# EAGLE library part SBH11-NBPC-D12-SM-BK (library SBH11-NBPC-D12-SM-BK)
Conn Headr 2.54mm 24pos Gold Smd
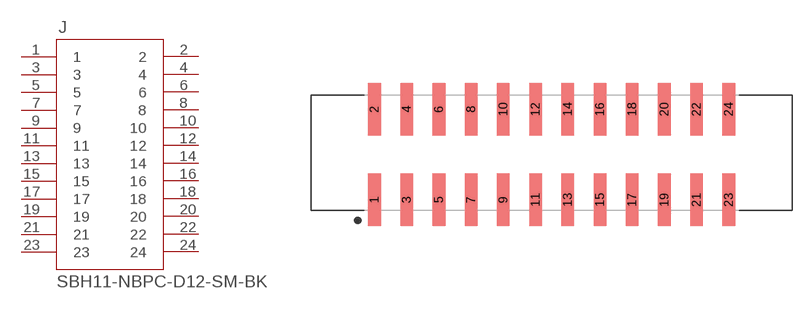
[diagram p0: symbol with the pads of SULLINS_SBH11-NBPC-D12-SM-BK; footprint SULLINS_SBH11-NBPC-D12-SM-BK]

Designator prefix J

## SBH11-NBPC-D12-SM-BK (Availability: Warning; Description: Conn Headr 2.54mm 24pos Gold Smd; MF: Sullins Connector; MP: SBH11-NBPC-D12-SM-BK; Package: None; Price: 1.05 USD)  [SULLINS_SBH11-NBPC-D12-SM-BK]
1  1  pas
2  2  pas
3  3  pas
4  4  pas
5  5  pas
6  6  pas
7  7  pas
8  8  pas
9  9  pas
10  10  pas
11  11  pas
12  12  pas
13  13  pas
14  14  pas
15  15  pas
16  16  pas
17  17  pas
18  18  pas
19  19  pas
20  20  pas
21  21  pas
22  22  pas
23  23  pas
24  24  pas

## Footprint SULLINS_SBH11-NBPC-D12-SM-BK (pad centres in mm)
smd 1 x 4.15: 1 -13.97,-3.575; 2 -13.97,3.575; 3 -11.43,-3.575; 4 -11.43,3.575; 5 -8.89,-3.575; 6 -8.89,3.575; 7 -6.35,-3.575; 8 -6.35,3.575; 9 -3.81,-3.575; 10 -3.81,3.575; 11 -1.27,-3.575; 12 -1.27,3.575; 13 1.27,-3.575; 14 1.27,3.575; 15 3.81,-3.575; 16 3.81,3.575; 17 6.35,-3.575; 18 6.35,3.575; 19 8.89,-3.575; 20 8.89,3.575; 21 11.43,-3.575; 22 11.43,3.575; 23 13.97,-3.575; 24 13.97,3.575